# EAGLE library part DRAGONBOARD (library mille-feuille)
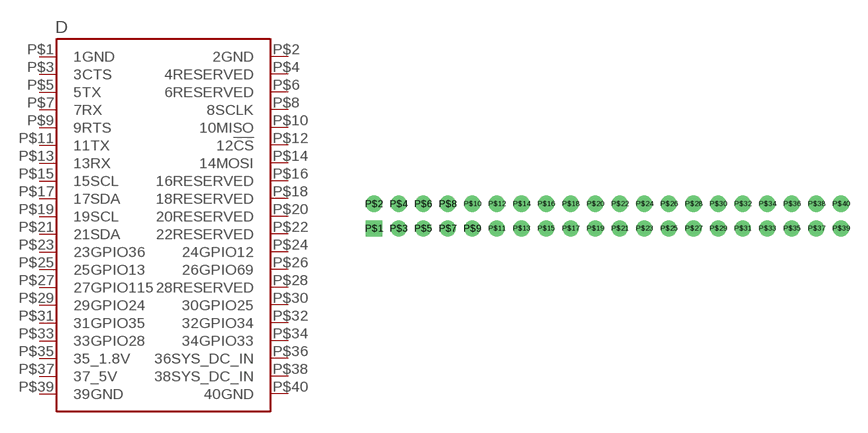
[diagram p16: symbol with the pads of PIN2X20_2MM; footprint PIN2X20_2MM]

Designator prefix D

## DRAGONBOARD  [PIN2X20_2MM]
P$1  1GND
P$2  2GND
P$3  3CTS
P$4  4RESERVED
P$5  5TX
P$6  6RESERVED
P$7  7RX
P$8  8SCLK
P$9  9RTS
P$10  10MISO
P$11  11TX
P$12  12!CS
P$13  13RX
P$14  14MOSI
P$15  15SCL
P$16  16RESERVED
P$17  17SDA
P$18  18RESERVED
P$19  19SCL
P$20  20RESERVED
P$21  21SDA
P$22  22RESERVED
P$23  23GPIO36
P$24  24GPIO12
P$25  25GPIO13
P$26  26GPIO69
P$27  27GPIO115
P$28  28RESERVED
P$29  29GPIO24
P$30  30GPIO25
P$31  31GPIO35
P$32  32GPIO34
P$33  33GPIO28
P$34  34GPIO33
P$35  35_1.8V
P$36  36SYS_DC_IN
P$37  37_5V
P$38  38SYS_DC_IN
P$39  39GND
P$40  40GND

## Footprint PIN2X20_2MM (pad centres in mm)
drill 0.8 square: P$1 -19,-1
drill 0.8: P$2 -19,1; P$3 -17,-1; P$4 -17,1; P$5 -15,-1; P$6 -15,1; P$7 -13,-1; P$8 -13,1; P$9 -11,-1; P$10 -11,1; P$11 -9,-1; P$12 -9,1; P$13 -7,-1; P$14 -7,1; P$15 -5,-1; P$16 -5,1; P$17 -3,-1; P$18 -3,1; P$19 -1,-1; P$20 -1,1; P$21 1,-1; P$22 1,1; P$23 3,-1; P$24 3,1; P$25 5,-1; P$26 5,1; P$27 7,-1; P$28 7,1; P$29 9,-1; P$30 9,1; P$31 11,-1; P$32 11,1; P$33 13,-1; P$34 13,1; P$35 15,-1; P$36 15,1; P$37 17,-1; P$38 17,1; P$39 19,-1; P$40 19,1